# EAGLE library part SWITCH (library Button_switch_2ways)
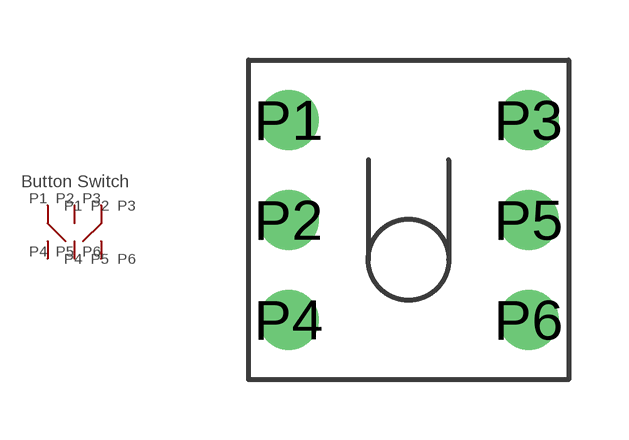
[diagram p0: symbol with the pads of SWITCH; footprint SWITCH]

Designator prefix -

## SWITCH  [SWITCH]
P1  P1
P2  P2
P3  P3
P4  P4
P5  P5
P6  P6

## Footprint SWITCH (pad centres in mm)
drill 0.75 pad 1.5: P1 -3,3.07; P2 -3,0.57; P3 3,3.07; P4 -3,-1.93; P5 3,0.57; P6 3,-1.93